# EAGLE library part 282 (library display-lcd-lxd)
5 Numerical Digit, .70" (17.78) Direct Drive Display Additional Descriptors: none
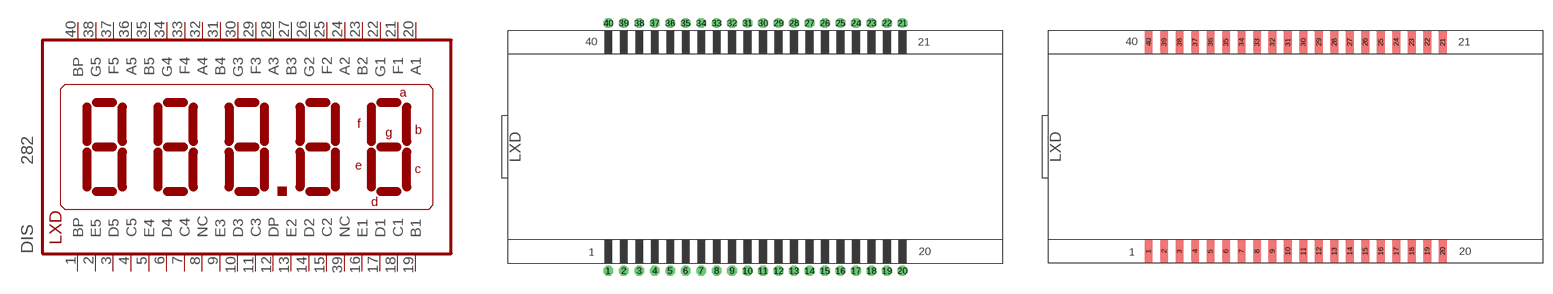
[diagram p41: symbol with the pads of 282-D; footprints 282-D, 282-E]

Designator prefix DIS

## 282DIP  [282-D]
1  BP  pas
2  E5  pas
3  D5  pas
4  C5  pas
5  E4  pas
6  D4  pas
7  C4  pas
8  NC  nc
9  E3  pas
10  D3  pas
11  C3  pas
12  DP  pas
13  E2  pas
14  D2  pas
15  C2  pas
16  E1  pas
17  D1  pas
18  C1  pas
19  B1  pas
20  A1  pas
21  F1  pas
22  G1  pas
23  B2  pas
24  A2  pas
25  F2  pas
26  G2  pas
27  B3  pas
28  A3  pas
29  F3  pas
30  G3  pas
31  B4  pas
32  A4  pas
33  F4  pas
34  G4  pas
35  B5  pas
36  A5  pas
37  F5  pas
38  G5  pas
39  NC  nc
40  BP  pas

## 282SMD  [282-E]
Pads as for 282-D

## Footprint 282-D (pad centres in mm)
Glass Size: 3.20" x 1.50" &nbsp &nbsp &nbsp &nbsp &nbsp &nbsp &nbsp &nbsp &nbsp (81.28 x 38.10)
drill 0.813 pad 1.6 octagon: 1 -24.13,-20.32; 2 -21.59,-20.32; 3 -19.05,-20.32; 4 -16.51,-20.32; 5 -13.97,-20.32; 6 -11.43,-20.32; 7 -8.89,-20.32; 8 -6.35,-20.32; 9 -3.81,-20.32; 10 -1.27,-20.32; 11 1.27,-20.32; 12 3.81,-20.32; 13 6.35,-20.32; 14 8.89,-20.32; 15 11.43,-20.32; 16 13.97,-20.32; 17 16.51,-20.32; 18 19.05,-20.32; 19 21.59,-20.32; 20 24.13,-20.32; 21 24.13,20.32; 22 21.59,20.32; 23 19.05,20.32; 24 16.51,20.32; 25 13.97,20.32; 26 11.43,20.32; 27 8.89,20.32; 28 6.35,20.32; 29 3.81,20.32; 30 1.27,20.32; 31 -1.27,20.32; 32 -3.81,20.32; 33 -6.35,20.32; 34 -8.89,20.32; 35 -11.43,20.32; 36 -13.97,20.32; 37 -16.51,20.32; 38 -19.05,20.32; 39 -21.59,20.32; 40 -24.13,20.32

## Footprint 282-E (pad centres in mm)
Glass Size: 3.20" x 1.50" &nbsp &nbsp &nbsp &nbsp &nbsp &nbsp &nbsp &nbsp &nbsp (81.28 x 38.10)
smd 1.27 x 3.81: 1 -24.13,-17.145; 2 -21.59,-17.145; 3 -19.05,-17.145; 4 -16.51,-17.145; 5 -13.97,-17.145; 6 -11.43,-17.145; 7 -8.89,-17.145; 8 -6.35,-17.145; 9 -3.81,-17.145; 10 -1.27,-17.145; 11 1.27,-17.145; 12 3.81,-17.145; 13 6.35,-17.145; 14 8.89,-17.145; 15 11.43,-17.145; 16 13.97,-17.145; 17 16.51,-17.145; 18 19.05,-17.145; 19 21.59,-17.145; 20 24.13,-17.145; 21 24.13,17.145; 22 21.59,17.145; 23 19.05,17.145; 24 16.51,17.145; 25 13.97,17.145; 26 11.43,17.145; 27 8.89,17.145; 28 6.35,17.145; 29 3.81,17.145; 30 1.27,17.145; 31 -1.27,17.145; 32 -3.81,17.145; 33 -6.35,17.145; 34 -8.89,17.145; 35 -11.43,17.145; 36 -13.97,17.145; 37 -16.51,17.145; 38 -19.05,17.145; 39 -21.59,17.145; 40 -24.13,17.145